# Altium footprint library Useful.PcbLib: 5 footprints
Each footprint in its own frame and in the unit in brackets; x right, y up, seen from the top. Pads: shape width x height; smd on the part's side, far side on the other; paste and mask are expansions set on the pad; w line width, h text height; cw(c..) or ccw(c..) is an arc to the next point about the centre after c.
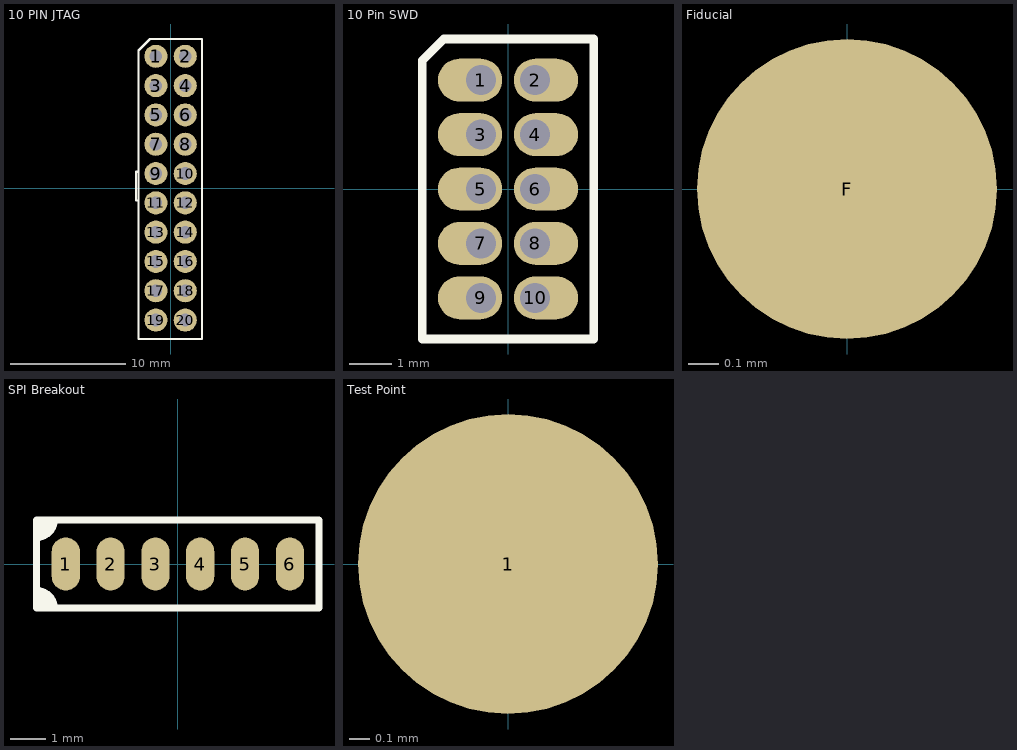
[diagram p0: the footprints below, top view; thin cyan lines are the x and y axes]

## 10 PIN JTAG [mm]
pads (20):
  round 2 hole 1.1: 1(-1.27,11.43) 2(1.27,11.43) 3(-1.27,8.89) 4(1.27,8.89) 5(-1.27,6.35) 6(1.27,6.35) 7(-1.27,3.81) 8(1.27,3.81) 9(-1.27,1.27) 10(1.27,1.27) 11(-1.27,-1.27) 12(1.27,-1.27) 13(-1.27,-3.81) 14(1.27,-3.81) 15(-1.27,-6.35) 16(1.27,-6.35) 17(-1.27,-8.89) 18(1.27,-8.89) 19(-1.27,-11.43) 20(1.27,-11.43)
Top Overlay:
  lines w0.2: -2.77,-1.07 -3,-1.07 -3,1.43 -2.77,1.43 ; -2.77,-13.07 -2.77,11.93 -1.77,12.93 2.73,12.93 2.73,-13.07 -2.77,-13.07

## 10 Pin SWD [mm]
pads (10):
  oval 1.5x1 hole 0.7 copper offset -0.25,0: 1(-0.635,2.54) 3(-0.635,1.27) 5(-0.635,0) 7(-0.635,-1.27) 9(-0.635,-2.54)
  oval 1.5x1 hole 0.7 copper offset 0.25,0: 2(0.635,2.54) 4(0.635,1.27) 6(0.635,0) 8(0.635,-1.27) 10(0.635,-2.54)
Top Overlay:
  lines w0.2: -2,-3.5 2,-3.5 2,3.5 -1.5,3.5 -2,3 -2,-3.5

## Fiducial [mm]
pads (1):
  round 1 smd paste-1 mask+0.5: F(0,0)

## SPI Breakout [mm] "Flash Connection Point"
pads (6):
  oval 0.8x1.5 smd: 1(-3.175,0) 2(-1.905,0) 3(-0.635,0) 4(0.635,0) 5(1.905,0) 6(3.175,0)
Top Overlay:
  region: -4,-0.75 -3.75,-0.75 -3.5,-1 -3.5,-1.25 -4,-1.25
  region: -4,1.25 -4,0.75 -3.75,0.75 -3.5,1 -3.5,1.25
  lines w0.2: -4,-0.75 cw(c-4,-1.25) -3.5,-1.25 ; -4,0.75 ccw(c-4,1.25) -3.5,1.25 ; -4,-1.25 -4,1.25 4,1.25 4,-1.25 -4,-1.25

## Test Point [mm]
pads (1):
  round 1.5 smd: 1(0,0)